# EAGLE library part FSA95601 (library freescale)
Digital Audio Amplifier Controller Source: http://www.freescale.com/files/dsp/doc/prod_brief/FSA95601PB.pdf
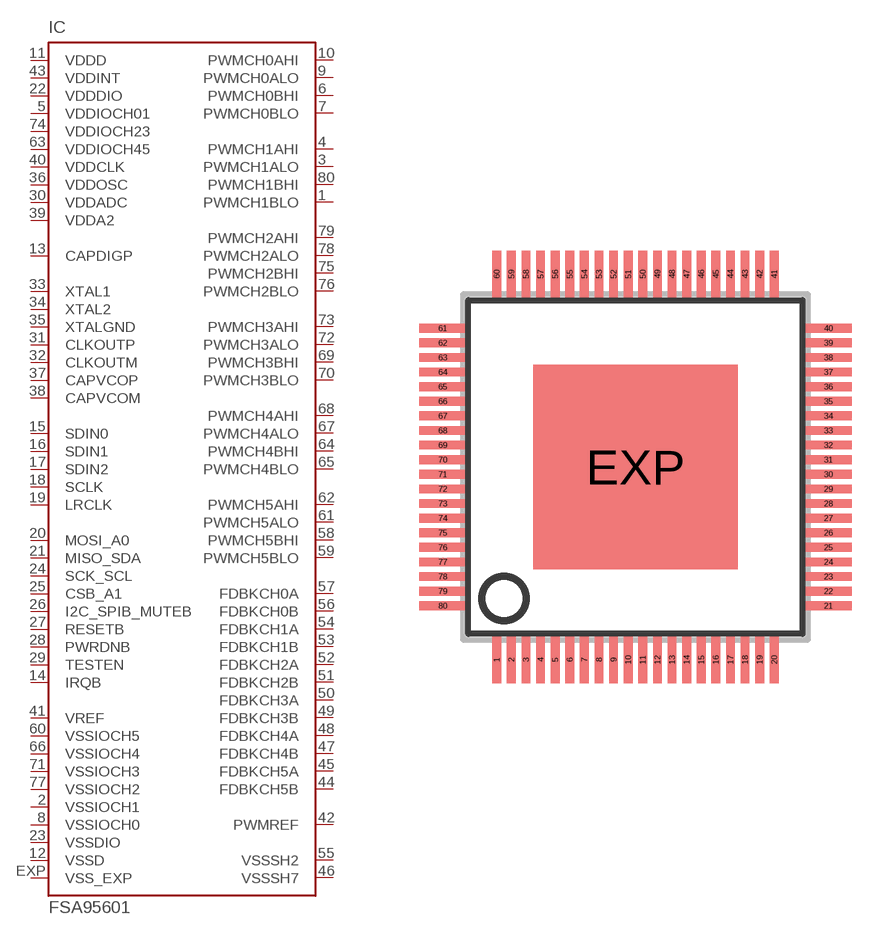
[diagram p6: symbol with the pads of QFP-12X12-80E; footprint QFP-12X12-80E]

Designator prefix IC

## FSA95601 (MPN: FSA95601AH; OC_FARNELL: unknown; OC_NEWARK: 69M3598)  [QFP-12X12-80E]
1  PWMCH1BLO  out
2  VSSIOCH1  in
3  PWMCH1ALO  out
4  PWMCH1AHI  out
5  VDDIOCH01  in
6  PWMCH0BHI  out
7  PWMCH0BLO  out
8  VSSIOCH0  in
9  PWMCH0ALO  out
10  PWMCH0AHI  out
11  VDDD  in
12  VSSD  in
13  CAPDIGP  out
14  IRQB  out
15  SDIN0  in
16  SDIN1  in
17  SDIN2
18  SCLK  in
19  LRCLK  in
20  MOSI_A0  in
21  MISO_SDA
22  VDDDIO  in
23  VSSDIO  in
24  SCK_SCL  in
25  CSB_A1  in
26  I2C_SPIB_MUTEB  in
27  RESETB  in
28  PWRDNB  in
29  TESTEN  in
30  VDDADC  in
31  CLKOUTP  out
32  CLKOUTM  out
33  XTAL1  in
34  XTAL2  in
35  XTALGND  in
36  VDDOSC  in
37  CAPVCOP  out
38  CAPVCOM  in
39  VDDA2  in
40  VDDCLK  in
41  VREF  out
42  PWMREF  in
43  VDDINT  in
44  FDBKCH5B  in
45  FDBKCH5A  in
46  VSSSH7  in
47  FDBKCH4B  in
48  FDBKCH4A  in
49  FDBKCH3B  in
50  FDBKCH3A  in
51  FDBKCH2B  in
52  FDBKCH2A  in
53  FDBKCH1B  in
54  FDBKCH1A  in
55  VSSSH2  in
56  FDBKCH0B  in
57  FDBKCH0A  in
58  PWMCH5BHI  out
59  PWMCH5BLO  out
60  VSSIOCH5  in
61  PWMCH5ALO  out
62  PWMCH5AHI  out
63  VDDIOCH45  in
64  PWMCH4BHI  out
65  PWMCH4BLO  out
66  VSSIOCH4  in
67  PWMCH4ALO  out
68  PWMCH4AHI  out
69  PWMCH3BHI  out
70  PWMCH3BLO  out
71  VSSIOCH3  in
72  PWMCH3ALO  out
73  PWMCH3AHI  out
74  VDDIOCH23  in
75  PWMCH2BHI  out
76  PWMCH2BLO  out
77  VSSIOCH2  in
78  PWMCH2ALO  out
79  PWMCH2AHI  out
80  PWMCH1BHI  out
EXP  VSS_EXP  in

## Footprint QFP-12X12-80E (pad centres in mm)
QFP80 quad flat pack, square
smd 0.3 x 1.6: 1 -4.75,-6.6; 2 -4.25,-6.6; 3 -3.75,-6.6; 4 -3.25,-6.6; 5 -2.75,-6.6; 6 -2.25,-6.6; 7 -1.75,-6.6; 8 -1.25,-6.6; 9 -0.75,-6.6; 10 -0.25,-6.6; 11 0.25,-6.6; 12 0.75,-6.6; 13 1.25,-6.6; 14 1.75,-6.6; 15 2.25,-6.6; 16 2.75,-6.6; 17 3.25,-6.6; 18 3.75,-6.6; 19 4.25,-6.6; 20 4.75,-6.6; 41 4.75,6.6; 42 4.25,6.6; 43 3.75,6.6; 44 3.25,6.6; 45 2.75,6.6; 46 2.25,6.6; 47 1.75,6.6; 48 1.25,6.6; 49 0.75,6.6; 50 0.25,6.6; 51 -0.25,6.6; 52 -0.75,6.6; 53 -1.25,6.6; 54 -1.75,6.6; 55 -2.25,6.6; 56 -2.75,6.6; 57 -3.25,6.6; 58 -3.75,6.6; 59 -4.25,6.6; 60 -4.75,6.6
smd 1.6 x 0.3: 21 6.6,-4.75; 22 6.6,-4.25; 23 6.6,-3.75; 24 6.6,-3.25; 25 6.6,-2.75; 26 6.6,-2.25; 27 6.6,-1.75; 28 6.6,-1.25; 29 6.6,-0.75; 30 6.6,-0.25; 31 6.6,0.25; 32 6.6,0.75; 33 6.6,1.25; 34 6.6,1.75; 35 6.6,2.25; 36 6.6,2.75; 37 6.6,3.25; 38 6.6,3.75; 39 6.6,4.25; 40 6.6,4.75; 61 -6.6,4.75; 62 -6.6,4.25; 63 -6.6,3.75; 64 -6.6,3.25; 65 -6.6,2.75; 66 -6.6,2.25; 67 -6.6,1.75; 68 -6.6,1.25; 69 -6.6,0.75; 70 -6.6,0.25; 71 -6.6,-0.25; 72 -6.6,-0.75; 73 -6.6,-1.25; 74 -6.6,-1.75; 75 -6.6,-2.25; 76 -6.6,-2.75; 77 -6.6,-3.25; 78 -6.6,-3.75; 79 -6.6,-4.25; 80 -6.6,-4.75
smd 7 x 7: EXP 0,0